# Altium footprint library SAMTEC_QTE-020-01-F-D-A.PcbLib: 1 footprints
Each footprint in its own frame and in the unit in brackets; x right, y up, seen from the top. Pads: shape width x height; smd on the part's side, far side on the other; paste and mask are expansions set on the pad; w line width, h text height; cw(c..) or ccw(c..) is an arc to the next point about the centre after c.
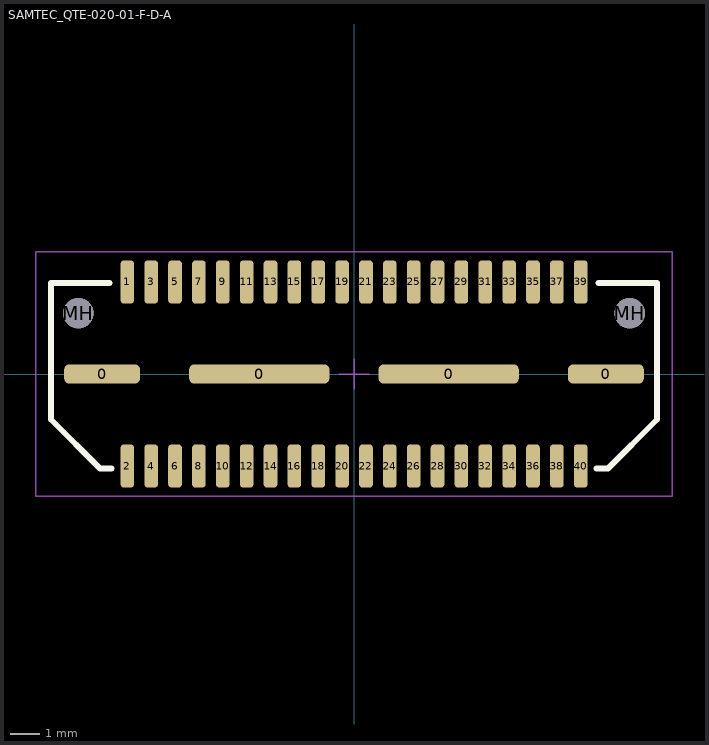
[diagram p0: the footprint, top view; thin cyan lines are the x and y axes]

## SAMTEC_QTE-020-01-F-D-A [mil]
pads (46):
  rrect50% 100x25 smd paste+0: 0(-332.48,0) 0(332.48,0)
  rrect50% 185x25 smd paste+0: 0(-125,0) 0(125,0)
  rrect50% 18x57 smd paste+0: 1(-299.2,121.5) 2(-299.2,-121.5) 3(-267.7,121.5) 4(-267.7,-121.5) 5(-236.2,121.5) 6(-236.2,-121.5) 7(-204.7,121.5) 8(-204.7,-121.5) 9(-173.2,121.5) 10(-173.2,-121.5) 11(-141.7,121.5) 12(-141.7,-121.5) 13(-110.2,121.5) 14(-110.2,-121.5) 15(-78.7,121.5) 16(-78.7,-121.5) 17(-47.2,121.5) 18(-47.2,-121.5) 19(-15.7,121.5) 20(-15.7,-121.5) 21(15.8,121.5) 22(15.8,-121.5) 23(47.3,121.5) 24(47.3,-121.5) 25(78.8,121.5) 26(78.8,-121.5) 27(110.3,121.5) 28(110.3,-121.5) 29(141.8,121.5) 30(141.8,-121.5) 31(173.3,121.5) 32(173.3,-121.5) 33(204.8,121.5) 34(204.8,-121.5) 35(236.3,121.5) 36(236.3,-121.5) 37(267.8,121.5) 38(267.8,-121.5) 39(299.3,121.5) 40(299.3,-121.5)
  round 40.16 hole 40.16 unplated paste-99999: MH(-363.78,80.31) MH(363.78,80.31)
Top Overlay:
  lines w7.87: -322.83,120 -400,120 -400,-60 -335,-125 -320,-125 ; 320,-125 335,-125 400,-60 400,120 322.83,120
Mechanical 15:
  lines w1.97: -20,0 20,0 ; 0,-20 0,20 ; -420,-161.42 420,-161.42 420,161.42 -420,161.42 -420,-161.42
3D body "QTE-020-01-F-D-A.stp": height 168.25, standoff -27.75, extent -394,-140 394,140